# Altium schematic symbol library 5V_Port.SchLib: 1 symbol
Pins are listed as number, name and electrical type; pins without a type are passive.

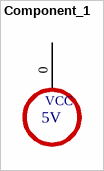
[diagram p0: symbol Component_1]

## Component_1
designator VCC, comment 5V  (value not drawn)
footprint 5v_Port
pins: 0 31